# Altium schematic symbol library TB6575FNG,C,8,EL.SchLib: 1 symbol
Pins are listed as number, name and electrical type; pins without a type are passive.

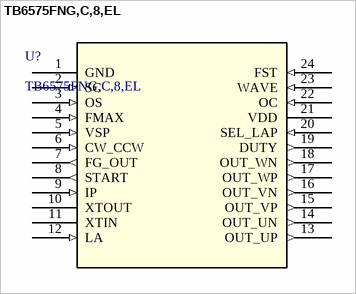
[diagram p0: symbol TB6575FNG,C,8,EL]

## TB6575FNG,C,8,EL
designator U?
No Description Available; Manufacturer_Name: Toshiba Electronic Devices & Storage Corp.; Copyright: Copyright (C) 2025 Ultra Librarian. All rights reserved.; Manufacturer_Part_Number: TB6575FNG,C,8,EL; RefDes: RefDes; Type: Type
footprint SSOP24-P-300-0p65A_TOS
pins: 1 GND (power), 2 SC (in), 3 OS (in), 4 FMAX (in), 5 VSP (in), 6 CW_CCW (in), 7 FG_OUT (out), 8 START (out), 9 IP (in), 10 XTOUT, 11 XTIN, 12 LA (in), 13 OUT_UP (out), 14 OUT_UN (out), 15 OUT_VP (out), 16 OUT_VN (out), 17 OUT_WP (out), 18 OUT_WN (out), 19 DUTY (out), 20 SEL_LAP (in), 21 VDD (power), 22 OC (in), 23 WAVE (in), 24 FST (in)